# Altium schematic symbol library SCH - CONNECTORS - USB 3.0 TYPE C 6PIN.SCHLIB: 1 symbol
Pins are listed as number, name and electrical type; pins without a type are passive.

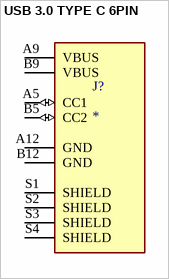
[diagram p0: symbol USB 3.0 TYPE C 6PIN]

## USB 3.0 TYPE C 6PIN
designator J?
MP: USB4125-GF-A_REVA2; Package: None; Availability: Unavailable; Value: *; Price: None
pins: A5 CC1 (io), A9 VBUS (power), A12 GND (power), B5 CC2 (io), B9 VBUS (power), B12 GND (power), S1 SHIELD, S2 SHIELD, S3 SHIELD, S4 SHIELD